# Altium schematic symbol library TLV900x.SchLib: 1 symbol
Pins are listed as number, name and electrical type; pins without a type are passive.

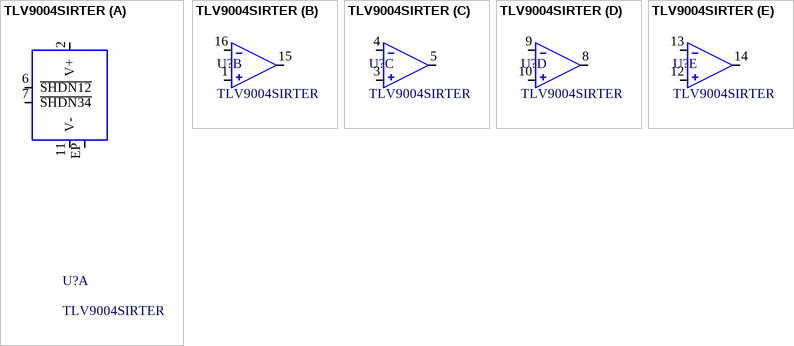
[diagram p0: symbol TLV9004SIRTER]

## TLV9004SIRTER
designator U?
Manufacturer 1: Texas Instruments; Type: TLV9004SIRTER; Manufacturer Part Number 1: TLV9004SIRTER
footprint WQFN-16_3X3_0.5_C
part A pins: 2 V+, 6 ~{SHDN12}, 7 ~{SHDN34}, 11 V-, EP
part B pins: 1 IN1+, 15 OUT1, 16 IN1-
part C pins: 3 IN2+, 4 IN2-, 5 OUT2
part D pins: 8 OUT3, 9 IN3-, 10 IN3+
part E pins: 12 IN4+, 13 IN4-, 14 OUT4